# Altium footprint library PcbLib1.PcbLib: 3 footprints
Each footprint in its own frame and in the unit in brackets; x right, y up, seen from the top. Pads: shape width x height; smd on the part's side, far side on the other; paste and mask are expansions set on the pad; w line width, h text height; cw(c..) or ccw(c..) is an arc to the next point about the centre after c.
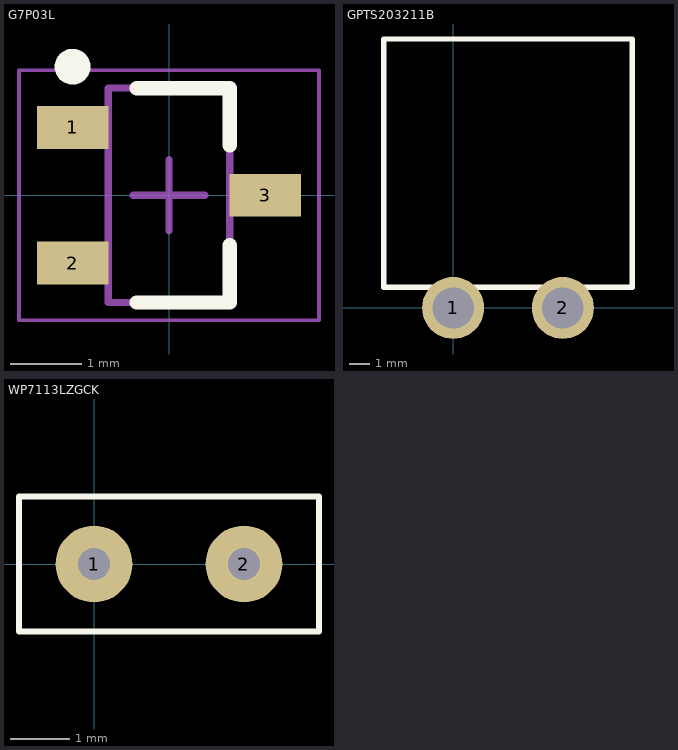
[diagram p0: the footprints below, top view; thin cyan lines are the x and y axes]

## G7P03L [mm] "SOT23, 3-Leads, Body 2.90x2.80mm, Pitch 0.95mm, IPC Medium Density"
height 1.2
pads (3):
  rect 1x0.6 smd: 1(-1.35,0.95) 2(-1.35,-0.95) 3(1.35,0)
Top Overlay:
  circle w0.25: c-1.35,1.8 r0.125
  lines w0.2: -0.45,-1.5 0.85,-1.5 0.85,-0.7 ; -0.45,1.5 0.85,1.5 0.85,0.7
Mechanical 13:
  lines w0.1: -0.85,-1.5 0.85,-1.5 0.85,1.5 -0.85,1.5 -0.85,-1.5
Mechanical 15:
  lines w0.05: -2.1,-1.75 2.1,-1.75 2.1,1.75 -2.1,1.75 -2.1,-1.75
  lines w0.1: -0.5,0 0.5,0 ; 0,-0.5 0,0.5
3D body: height 1.2, standoff 0.1, extent -0.85,-1.5 0.85,1.5

## GPTS203211B [mm] "Pushbutton Switch SPST Standard Through Hole"
pads (2):
  round 3 hole 2: 1(0,0) 2(5.3,0)
Top Overlay:
  lines w0.254: -3.35,1 8.65,1 8.65,13 -3.35,13 -3.35,1

## WP7113LZGCK [mm]
pads (2):
  round 1.3 hole 0.55: 1(0,0) 2(2.54,0)
Top Overlay:
  lines w0.1: -1.27,-1.143 3.81,-1.143 3.81,1.143 -1.27,1.143 -1.27,-1.143